# Altium schematic symbol library IPL1-106-01-X-D-RA-K.SchLib: 1 symbol
Pins are listed as number, name and electrical type; pins without a type are passive.

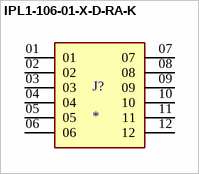
[diagram p0: symbol IPL1-106-01-X-D-RA-K]

## IPL1-106-01-X-D-RA-K
designator J?
Connector Header Through Hole, Right Angle 12 position 0.100 (2.54mm); MP: IPL1-106-01-L-D-RA-K; MF: Samtec; Availability: Bad; Price: None; Check_prices: https://www.snapeda.com/parts/IPL1-106-01-L-D-RA-K/Samtec%20Inc./view-part/3223018/?ref=eda; Package: None; SnapEDA_Link: https://www.snapeda.com/parts/IPL1-106-01-L-D-RA-K/Samtec%20Inc./view-part/3223018/?ref=snap; Value: *; Purchase-URL: https://pricing.snapeda.com/search/part/IPL1-106-01-L-D-RA-K/?ref=eda
footprint SAMTEC_IPL1-106-01-X-D-RA-K
pins: 01, 02, 03, 04, 05, 06, 07, 08, 09, 10, 11, 12